# EAGLE library part ANT-868-SP (library microbuilder)
SMT Antenna Antenna Factor 868MHz (1.10"x0.54") - Digikey: ANT-868-SP_-ND
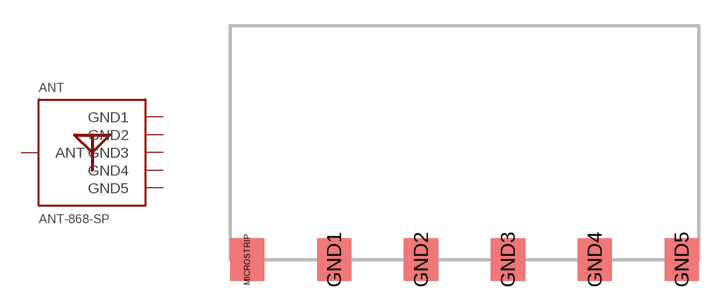
[diagram p93: symbol with the pads of ANT_868MHZ_SPLATCH; footprint ANT_868MHZ_SPLATCH]

Designator prefix ANT

## ANT-868-SP  [ANT_868MHZ_SPLATCH]
GND1  GND1  pwr
GND2  GND2  pwr
GND3  GND3  pwr
GND4  GND4  pwr
GND5  GND5  pwr
MICROSTRIP  ANT

## Footprint ANT_868MHZ_SPLATCH (pad centres in mm)
smd 2 x 2.5: GND1 -7.62,0; GND2 -2.54,0; GND3 2.54,0; GND4 7.62,0; GND5 12.7,0; MICROSTRIP -12.7,0